# Altium schematic symbol library LTST-C191KRKT.SchLib: 1 symbol
Pins are listed as number, name and electrical type; pins without a type are passive.

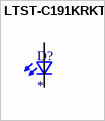
[diagram p0: symbol LTST-C191KRKT]

## LTST-C191KRKT
designator D?
http://octopart.com/ltst-c190krkt-lite-on-549893; MF: {'manufacturer': u'Lite-On Electronics'}; MP: LTST-C191KRKT; Package: None; Price: None; Value: *; Availability: Unavailable
footprint 0603
pins: 1 K2, 2 A2